# EAGLE library part LPS3*HW (library bschulz)
LPS3xHW - Digital Water Resistant Pressure Sensor Characteristics: Vcc: 1.7V ~ 3.6V Pressure Range: 260 ~ 1260 mBar Pressure Resolution: 0.24 μBar Pressure Accuracy: relative ±0.1 mBar, abs ± 1 mBar Temperature Resolution: 0.01°C Temperature Accuracy: 1.5°C Operating Temperature: -40°C to 125°C Digikey: 497-16706-1-ND (LPS35HW) <https://www.digikey.com/product-detail/en/stmicroelectronics/LPS35HWTR/497-16706-1-ND/6192808> 497-17590-1-ND (LPS33HW) <https://www.digikey.com/product-detail/en/stmicroelectronics/LPS33HWTR/497-17590-1-ND/7565514>
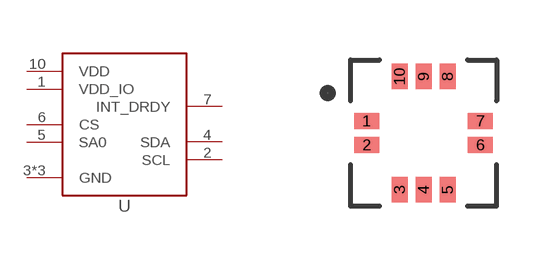
[diagram p95: symbol with the pads of CCLGA10L; footprint CCLGA10L]

Designator prefix U

## LPS3HW, LPS35HW (DIGIKEY: 497-16706-1-ND; DISP: LPS35HW; MF: ST; MPN: LPS35HWTR)  [CCLGA10L]
1  VDD_IO  pwr
2  SCL  in
3  GND  pwr
4  SDA
5  SA0  in
6  CS  in
7  INT_DRDY  out
8  GND  pwr
9  GND  pwr
10  VDD  pwr

## Footprint CCLGA10L (pad centres in mm)
Package for use with LPS35HW Ref Datasheet <https://www.st.com/resource/en/datasheet/lps35hw.pdf>
smd 0.63 x 0.4: 1 -1.42,0.3; 2 -1.42,-0.3; 6 1.42,-0.3; 7 1.42,0.3
smd 0.4 x 0.63: 3 -0.6,-1.42; 4 0,-1.42; 5 0.6,-1.42; 8 0.6,1.42; 9 0,1.42; 10 -0.6,1.42